# EAGLE library part PINH2X04 (library pinhead_smd)
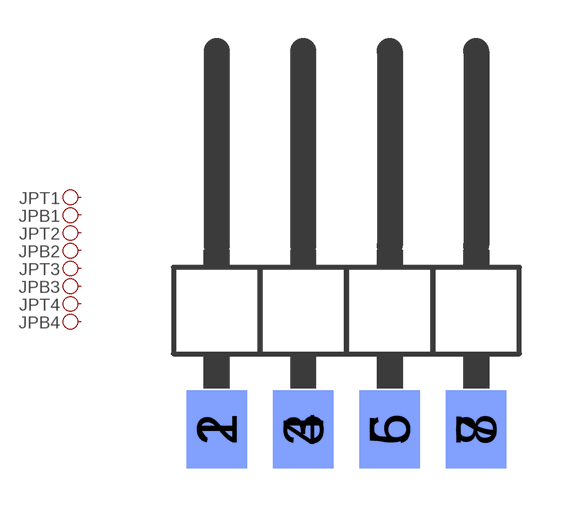
[diagram p1: symbol with the pads of PINH2X04SMD; footprint PINH2X04SMD]

Designator prefix JP; gates T1=PINH1X01 B1=PINH1X01 T2=PINH1X01 B2=PINH1X01 T3=PINH1X01 B3=PINH1X01 T4=PINH1X01 B4=PINH1X01

## PINH2X04  [PINH2X04SMD]
1  T1:1  pas
2  B1:1  pas
3  T2:1  pas
4  B2:1  pas
5  T3:1  pas
6  B3:1  pas
7  T4:1  pas
8  B4:1  pas

## Footprint PINH2X04SMD (pad centres in mm)
smd 1.778 x 2.286: 1 -3.81,-2.223; 3 -1.27,-2.223; 5 1.27,-2.223; 7 3.81,-2.223
smd 1.778 x 2.286 bottom: 2 -3.81,-2.223; 4 -1.27,-2.223; 6 1.27,-2.223; 8 3.81,-2.223